# Altium schematic symbol library Resistors_2.SchLib: 7 symbols
Pins are listed as number, name and electrical type; pins without a type are passive.

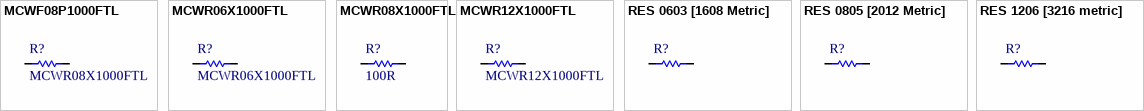
[diagram p0: symbols MCWF08P1000FTL to RES 1206 [3216 metric]]

## MCWF08P1000FTL
designator R?, comment MCWR08X1000FTL
RES 100, ±1%, 250mW, 150V, 0805 [2012 Metric], Thick Film; Manufacturer: MULTICOMP PRO; Manufacturer Part Number: MCWF08P1000FTL; Supplier 1: Farnell; Supplier Part Number 1: 2694094; Package: 0805 [2012 Metric]; Part Type: High power; ComponentLink1Description: Datasheet; ComponentLink1URL: http://www.farnell.com/datasheets/2864032.pdf; Mounting: SMD; Value: MCWR08X1000FTL
footprint RESC2012N (Chip Resistor, Body 2.0x1.3mm, IPC Medium Density)
pins: 1, 2
1 alternate drawing of the same symbol

## MCWR06X1000FTL
designator R?
RES 100, ±1%, 100mW, 75V, 0603 [1608 Metric], Thick Film; Manufacturer: MULTICOMP PRO; Manufacturer Part Number: MCWR06X1000FTL; Supplier 1: Farnell; Supplier Part Number 1: 2447227; Package: 0603 [1608 Metric]; Part Type: General purpose; ComponentLink1Description: Datasheet; ComponentLink1URL: http://www.farnell.com/datasheets/2860681.pdf; Mounting: SMD; Value: MCWR06X1000FTL
footprint RESC1608N (Chip Resistor, Body 1.6x0.8mm, IPC Medium Density)
pins: 1, 2
1 alternate drawing of the same symbol

## MCWR08X1000FTL
designator R?, comment 100R
RES 100K, ±10%, 125mW, 150V, 0805 [2012 Metric], Thick Film, MCWR Series; Manufacturer: MULTICOMP; Manufacturer Part Number: MCWR08X1000FTL; Tollerance: ±1%; Temperature Coefficient: ±100ppm/°C; Value: 100R; Supplier 1: Farnell; Supplier Part Number 1: 2447552; Power: 125mW; Voltage: 150V; Package: 0805 [2012 Metric]; Part Type: Thick Film; ComponentLink1Description: Datasheet; ComponentLink1URL: http://www.farnell.com/datasheets/2860681.pdf; Mounting: SMD
footprint RESC2012N (Chip Resistor, Body 2.0x1.3mm, IPC Medium Density)
pins: 1, 2
1 alternate drawing of the same symbol

## MCWR12X1000FTL
designator R?
RES 100, ±1%, 250mW, 200V, 1206 [3216 Metric], Thick Film; Manufacturer: MULTICOMP PRO; Value: MCWR12X1000FTL; Manufacturer Part Number: MCWR12X1000FTL; Supplier 1: Farnell; Supplier Part Number 1: 2447454; Package: 1206 [3216 Metric]; Part Type: General purpose; ComponentLink1Description: Datasheet; ComponentLink1URL: http://www.farnell.com/datasheets/2563624.pdf; Mounting: SMD
footprint RESC3216N (Chip Resistor, Body 3.2x1.6mm, IPC Medium Density)
pins: 1, 2
1 alternate drawing of the same symbol

## RES 0603 [1608 Metric]
designator R?
RES 100K, ±10%, 125mW, 150V, 0603 [1608 Metric], Thick Film; Package: 0603 [1608 Metric]; ComponentLink1Description: Datasheet; Mounting: SMD
footprint RESC1608N (Chip Resistor, Body 1.6x0.8mm, IPC Medium Density)
pins: 1, 2
1 alternate drawing of the same symbol

## RES 0805 [2012 Metric]
designator R?
RES 100K, ±10%, 125mW, 150V, 0805 [2012 Metric], Thick Film; Package: 0805 [2012 Metric]; ComponentLink1Description: Datasheet; Mounting: SMD
footprint RESC2012N (Chip Resistor, Body 2.0x1.3mm, IPC Medium Density)
pins: 1, 2
1 alternate drawing of the same symbol

## RES 1206 [3216 metric]
designator R?
RES 100K, ±10%, 125mW, 150V, 1206 [3216 Metric], Thick Film; Package: 1206 [3216 Metric]; ComponentLink1Description: Datasheet; Mounting: SMD
footprint RESC3216N (Chip Resistor, Body 3.2x1.6mm, IPC Medium Density)
pins: 1, 2
1 alternate drawing of the same symbol